# EAGLE library part USB-SHIELD (library usb-header)
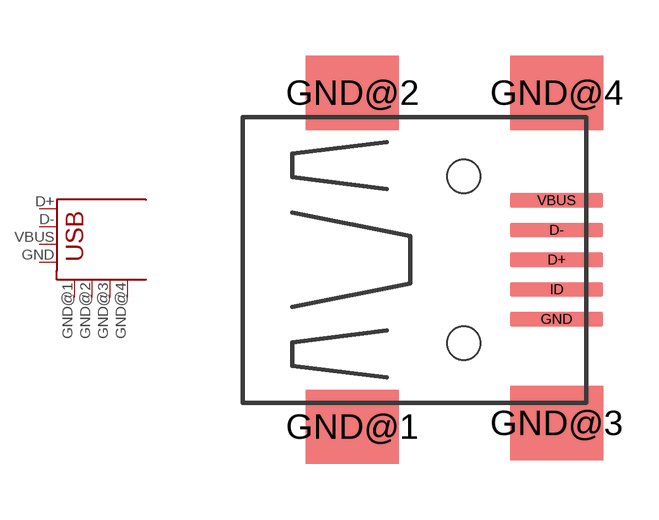
[diagram p0: symbol with the pads of USB-M-S1; footprint USB-M-S1]

Designator prefix -

## USB-SHIELD  [USB-M-S1]
D+  D+
D-  D-
GND  GND
GND@1  GND
GND@2  GND
GND@3  GND
GND@4  GND
VBUS  VBUS

## Footprint USB-M-S1 (pad centres in mm)
smd 2.5 x 0.4: D+ 2.75,0; D- 2.75,0.8; GND 2.75,-1.6; ID 2.75,-0.8; VBUS 2.75,1.6
smd 2.5 x 2: GND@1 -2.75,-4.5; GND@2 -2.75,4.5; GND@3 2.75,-4.4; GND@4 2.75,4.5
hole 0.9 at 0.25,2.25
hole 0.9 at 0.25,-2.25